# EAGLE library part XC3S100-* (library RoboJackets-ICs)
Spartan-3E 144pin
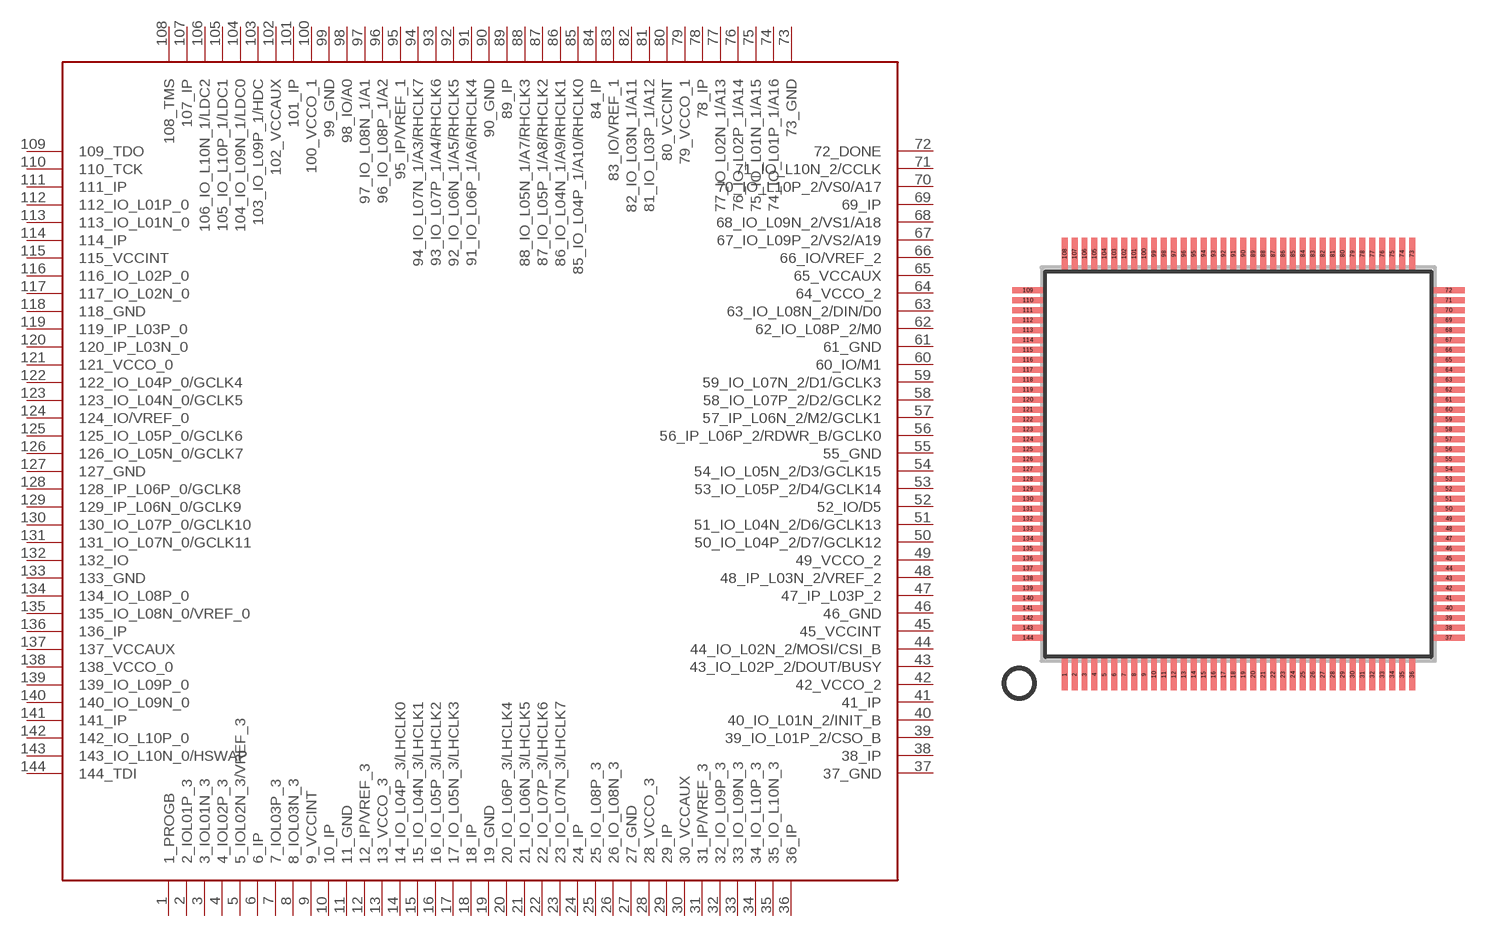
[diagram p4: symbol with the pads of TQFP144; footprint TQFP144]

Designator prefix -

## XC3S100-  [TQFP144]
1  1_PROGB
2  2_IOL01P_3
3  3_IOL01N_3
4  4_IOL02P_3
5  5_IOL02N_3/VREF_3
6  6_IP
7  7_IOL03P_3
8  8_IOL03N_3
9  9_VCCINT
10  10_IP
11  11_GND
12  12_IP/VREF_3
13  13_VCCO_3
14  14_IO_L04P_3/LHCLK0
15  15_IO_L04N_3/LHCLK1
16  16_IO_L05P_3/LHCLK2
17  17_IO_L05N_3/LHCLK3
18  18_IP
19  19_GND
20  20_IO_L06P_3/LHCLK4
21  21_IO_L06N_3/LHCLK5
22  22_IO_L07P_3/LHCLK6
23  23_IO_L07N_3/LHCLK7
24  24_IP
25  25_IO_L08P_3
26  26_IO_L08N_3
27  27_GND
28  28_VCCO_3
29  29_IP
30  30_VCCAUX
31  31_IP/VREF_3
32  32_IO_L09P_3
33  33_IO_L09N_3
34  34_IO_L10P_3
35  35_IO_L10N_3
36  36_IP
37  37_GND
38  38_IP
39  39_IO_L01P_2/CSO_B
40  40_IO_L01N_2/INIT_B
41  41_IP
42  42_VCCO_2
43  43_IO_L02P_2/DOUT/BUSY
44  44_IO_L02N_2/MOSI/CSI_B
45  45_VCCINT
46  46_GND
47  47_IP_L03P_2
48  48_IP_L03N_2/VREF_2
49  49_VCCO_2
50  50_IO_L04P_2/D7/GCLK12
51  51_IO_L04N_2/D6/GCLK13
52  52_IO/D5
53  53_IO_L05P_2/D4/GCLK14
54  54_IO_L05N_2/D3/GCLK15
55  55_GND
56  56_IP_L06P_2/RDWR_B/GCLK0
57  57_IP_L06N_2/M2/GCLK1
58  58_IO_L07P_2/D2/GCLK2
59  59_IO_L07N_2/D1/GCLK3
60  60_IO/M1
61  61_GND
62  62_IO_L08P_2/M0
63  63_IO_L08N_2/DIN/D0
64  64_VCCO_2
65  65_VCCAUX
66  66_IO/VREF_2
67  67_IO_L09P_2/VS2/A19
68  68_IO_L09N_2/VS1/A18
69  69_IP
70  70_IO_L10P_2/VS0/A17
71  71_IO_L10N_2/CCLK
72  72_DONE
73  73_GND
74  74_IO_L01P_1/A16
75  75_IO_L01N_1/A15
76  76_IO_L02P_1/A14
77  77_IO_L02N_1/A13
78  78_IP
79  79_VCCO_1
80  80_VCCINT
81  81_IO_L03P_1/A12
82  82_IO_L03N_1/A11
83  83_IO/VREF_1
84  84_IP
85  85_IO_L04P_1/A10/RHCLK0
86  86_IO_L04N_1/A9/RHCLK1
87  87_IO_L05P_1/A8/RHCLK2
88  88_IO_L05N_1/A7/RHCLK3
89  89_IP
90  90_GND
91  91_IO_L06P_1/A6/RHCLK4
92  92_IO_L06N_1/A5/RHCLK5
93  93_IO_L07P_1/A4/RHCLK6
94  94_IO_L07N_1/A3/RHCLK7
95  95_IP/VREF_1
96  96_IO_L08P_1/A2
97  97_IO_L08N_1/A1
98  98_IO/A0
99  99_GND
100  100_VCCO_1
101  101_IP
102  102_VCCAUX
103  103_IO_L09P_1/HDC
104  104_IO_L09N_1/LDC0
105  105_IO_L10P_1/LDC1
106  106_IO_L10N_1/LDC2
107  107_IP
108  108_TMS
109  109_TDO
110  110_TCK
111  111_IP
112  112_IO_L01P_0
113  113_IO_L01N_0
114  114_IP
115  115_VCCINT
116  116_IO_L02P_0
117  117_IO_L02N_0
118  118_GND
119  119_IP_L03P_0
120  120_IP_L03N_0
121  121_VCCO_0
122  122_IO_L04P_0/GCLK4
123  123_IO_L04N_0/GCLK5
124  124_IO/VREF_0
125  125_IO_L05P_0/GCLK6
126  126_IO_L05N_0/GCLK7
127  127_GND
128  128_IP_L06P_0/GCLK8
129  129_IP_L06N_0/GCLK9
130  130_IO_L07P_0/GCLK10
131  131_IO_L07N_0/GCLK11
132  132_IO
133  133_GND
134  134_IO_L08P_0
135  135_IO_L08N_0/VREF_0
136  136_IP
137  137_VCCAUX
138  138_VCCO_0
139  139_IO_L09P_0
140  140_IO_L09N_0
141  141_IP
142  142_IO_L10P_0
143  143_IO_L10N_0/HSWAP
144  144_TDI

## Footprint TQFP144 (pad centres in mm)
QFP144 shrink quad flat pack, square (smd-ipc)
smd 0.3 x 1.6: 1 -8.75,-10.6; 2 -8.25,-10.6; 3 -7.75,-10.6; 4 -7.25,-10.6; 5 -6.75,-10.6; 6 -6.25,-10.6; 7 -5.75,-10.6; 8 -5.25,-10.6; 9 -4.75,-10.6; 10 -4.25,-10.6; 11 -3.75,-10.6; 12 -3.25,-10.6; 13 -2.75,-10.6; 14 -2.25,-10.6; 15 -1.75,-10.6; 16 -1.25,-10.6; 17 -0.75,-10.6; 18 -0.25,-10.6; 19 0.25,-10.6; 20 0.75,-10.6; 21 1.25,-10.6; 22 1.75,-10.6; 23 2.25,-10.6; 24 2.75,-10.6; 25 3.25,-10.6; 26 3.75,-10.6; 27 4.25,-10.6; 28 4.75,-10.6; 29 5.25,-10.6; 30 5.75,-10.6; 31 6.25,-10.6; 32 6.75,-10.6; 33 7.25,-10.6; 34 7.75,-10.6; 35 8.25,-10.6; 36 8.75,-10.6; 73 8.75,10.6; 74 8.25,10.6; 75 7.75,10.6; 76 7.25,10.6; 77 6.75,10.6; 78 6.25,10.6; 79 5.75,10.6; 80 5.25,10.6; 81 4.75,10.6; 82 4.25,10.6; 83 3.75,10.6; 84 3.25,10.6; 85 2.75,10.6; 86 2.25,10.6; 87 1.75,10.6; 88 1.25,10.6; 89 0.75,10.6; 90 0.25,10.6; 91 -0.25,10.6; 92 -0.75,10.6; 93 -1.25,10.6; 94 -1.75,10.6; 95 -2.25,10.6; 96 -2.75,10.6; 97 -3.25,10.6; 98 -3.75,10.6; 99 -4.25,10.6; 100 -4.75,10.6; 101 -5.25,10.6; 102 -5.75,10.6; 103 -6.25,10.6; 104 -6.75,10.6; 105 -7.25,10.6; 106 -7.75,10.6; 107 -8.25,10.6; 108 -8.75,10.6
smd 1.6 x 0.3: 37 10.6,-8.75; 38 10.6,-8.25; 39 10.6,-7.75; 40 10.6,-7.25; 41 10.6,-6.75; 42 10.6,-6.25; 43 10.6,-5.75; 44 10.6,-5.25; 45 10.6,-4.75; 46 10.6,-4.25; 47 10.6,-3.75; 48 10.6,-3.25; 49 10.6,-2.75; 50 10.6,-2.25; 51 10.6,-1.75; 52 10.6,-1.25; 53 10.6,-0.75; 54 10.6,-0.25; 55 10.6,0.25; 56 10.6,0.75; 57 10.6,1.25; 58 10.6,1.75; 59 10.6,2.25; 60 10.6,2.75; 61 10.6,3.25; 62 10.6,3.75; 63 10.6,4.25; 64 10.6,4.75; 65 10.6,5.25; 66 10.6,5.75; 67 10.6,6.25; 68 10.6,6.75; 69 10.6,7.25; 70 10.6,7.75; 71 10.6,8.25; 72 10.6,8.75; 109 -10.6,8.75; 110 -10.6,8.25; 111 -10.6,7.75; 112 -10.6,7.25; 113 -10.6,6.75; 114 -10.6,6.25; 115 -10.6,5.75; 116 -10.6,5.25; 117 -10.6,4.75; 118 -10.6,4.25; 119 -10.6,3.75; 120 -10.6,3.25; 121 -10.6,2.75; 122 -10.6,2.25; 123 -10.6,1.75; 124 -10.6,1.25; 125 -10.6,0.75; 126 -10.6,0.25; 127 -10.6,-0.25; 128 -10.6,-0.75; 129 -10.6,-1.25; 130 -10.6,-1.75; 131 -10.6,-2.25; 132 -10.6,-2.75; 133 -10.6,-3.25; 134 -10.6,-3.75; 135 -10.6,-4.25; 136 -10.6,-4.75; 137 -10.6,-5.25; 138 -10.6,-5.75; 139 -10.6,-6.25; 140 -10.6,-6.75; 141 -10.6,-7.25; 142 -10.6,-7.75; 143 -10.6,-8.25; 144 -10.6,-8.75